# Altium footprint library DB9.PcbLib: 2 footprints
Each footprint in its own frame and in the unit in brackets; x right, y up, seen from the top. Pads: shape width x height; smd on the part's side, far side on the other; paste and mask are expansions set on the pad; w line width, h text height; cw(c..) or ccw(c..) is an arc to the next point about the centre after c.
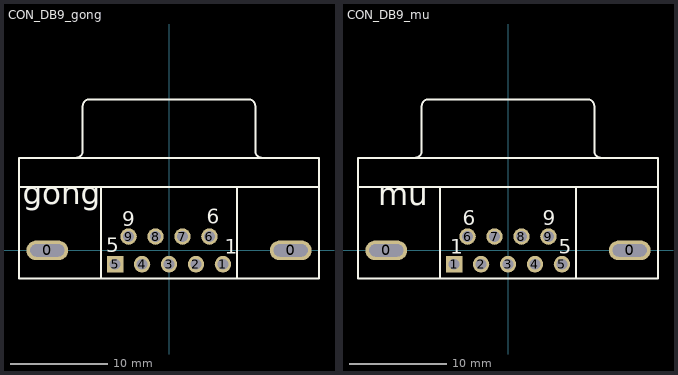
[diagram p0: the footprints below, top view; thin cyan lines are the x and y axes]

## CON_DB9_gong [mm]
pads (11):
  oval 4.3x2 hole 1.27 slot 3.5 at 0 deg: 0(-12.495,0) 0(12.495,0)
  round 1.69 hole 1.09: 1(5.54,-1.42) 2(2.77,-1.42) 3(0,-1.42) 4(-2.77,-1.42) 6(4.155,1.42) 7(1.385,1.42) 8(-1.385,1.42) 9(-4.155,1.42)
  rect 1.69x1.69 hole 1.09: 5(-5.54,-1.42)
Top Overlay:
  lines w0.2: -15.4,6.5 15.4,6.5 ; -9.56,9.505 ccw(c-9.56,10.2) -8.865,10.2 -8.865,14.8 ; -8.86,14.805 cw(c-8.165,14.805) -8.165,15.5 8.165,15.5 cw(c8.165,14.805) 8.86,14.805 ; -7,-2.9 -7,6.5 ; 7,-2.9 7,6.5 ; 8.865,14.8 8.865,10.2 ccw(c9.56,10.2) 9.56,9.505 ; -15.4,-2.9 -15.4,9.5 15.4,9.5 15.4,-2.9 -15.4,-2.9
  text "gong" at -15.04,3.955 h4
  text "1" at 5.725,-0.35 h1.5
  text "5" at -6.45,-0.175 h1.5
  text "9" at -4.775,2.5 h1.5
  text "6" at 3.9,2.75 h1.5
3D body "ALSRobot-DB9-M.STEP": height 12.35, standoff -4.05, extent -15.2,-2.925 15.3,14.775

## CON_DB9_mu [mm]
pads (11):
  oval 4.3x2 hole 1.27 slot 3.5 at 0 deg: 0(-12.495,0) 0(12.495,0)
  rect 1.69x1.69 hole 1.09: 1(-5.54,-1.42)
  round 1.69 hole 1.09: 2(-2.77,-1.42) 3(0,-1.42) 4(2.77,-1.42) 5(5.54,-1.42) 6(-4.155,1.42) 7(-1.385,1.42) 8(1.385,1.42) 9(4.155,1.42)
Top Overlay:
  lines w0.2: -15.4,6.5 15.4,6.5 ; -9.56,9.505 ccw(c-9.56,10.2) -8.865,10.2 -8.865,14.8 ; -8.86,14.805 cw(c-8.165,14.805) -8.165,15.5 8.165,15.5 cw(c8.165,14.805) 8.86,14.805 ; -7,-2.9 -7,6.5 ; 7,-2.9 7,6.5 ; 8.865,14.8 8.865,10.2 ccw(c9.56,10.2) 9.56,9.505 ; -15.4,-2.9 15.4,-2.9 15.4,9.5 -15.4,9.5 -15.4,-2.9
  text "6" at -4.64,2.56 h1.5
  text "9" at 3.59,2.56 h1.5
  text "5" at 5.2,-0.36 h1.5
  text "1" at -5.92,-0.36 h1.5
  text "mu" at -13.34,3.88 h4
3D body "DB9_Femal.STEP": height 12.25, standoff -4.05, extent -15.36,-3.63 15.45,15.57